# EAGLE library part SP233ACP-L (library Exar_By_element14_Batch_1)
RS-232 Line Drivers/Receivers
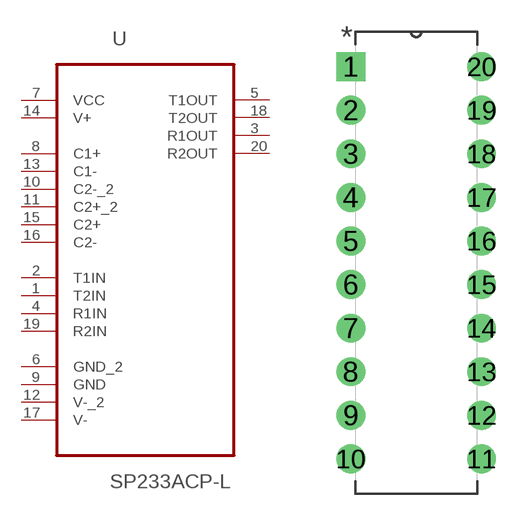
[diagram p9: symbol with the pads of DIP254P762X533-20; footprint DIP254P762X533-20]

Designator prefix U

## SP233ACP-L (MPN: SP233ACP-L; OC_FARNELL: 9386572; OC_NEWARK: 24R0096; PACKAGE: PDIP-20; SUPPLIER: EXAR)  [DIP254P762X533-20]
1  T2IN  in
2  T1IN  in
3  R1OUT  out
4  R1IN  in
5  T1OUT  out
6  GND_2  pas
7  VCC  pwr
8  C1+  pas
9  GND  pas
10  C2-_2  pas
11  C2+_2  pas
12  V-_2  pwr
13  C1-  pas
14  V+  pwr
15  C2+  pas
16  C2-  pas
17  V-  pwr
18  T2OUT  out
19  R2IN  in
20  R2OUT  out

## Footprint DIP254P762X533-20 (pad centres in mm)
drill 1.118 square: 1 -7.62,22.86
drill 1.118: 2 -7.62,20.32; 3 -7.62,17.78; 4 -7.62,15.24; 5 -7.62,12.7; 6 -7.62,10.16; 7 -7.62,7.62; 8 -7.62,5.08; 9 -7.62,2.54; 10 -7.62,0; 11 0,0; 12 0,2.54; 13 0,5.08; 14 0,7.62; 15 0,10.16; 16 0,12.7; 17 0,15.24; 18 0,17.78; 19 0,20.32; 20 0,22.86